# Altium schematic symbol library NSR0240HT1G.SchLib: 1 symbol
Pins are listed as number, name and electrical type; pins without a type are passive.

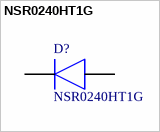
[diagram p0: symbol NSR0240HT1G]

## NSR0240HT1G
designator D?
SMT Schottky Diode, 40V dc 250mA, 3ns, 2-pin SOD-323; Manufacturer_Name: ON Semiconductor; Allied_Number: 70341267; Geometry.Height: 1.1mm; Supplier_Name: RS; RS Part Number: 7931024; Manufacturer_Part_Number: NSR0240HT1G; Other Part Number: *; Datasheet Link: http://www.onsemi.com/pub/Collateral/NSR0240H-D.PDF; 3D Package: *
footprint SOD2512X110N
pins: 1 K, 2 A